# Altium integrated library Analog Devices Data Converters Digital-to-Analog Converters.IntLib: 2231 symbols (part 104 of 181)
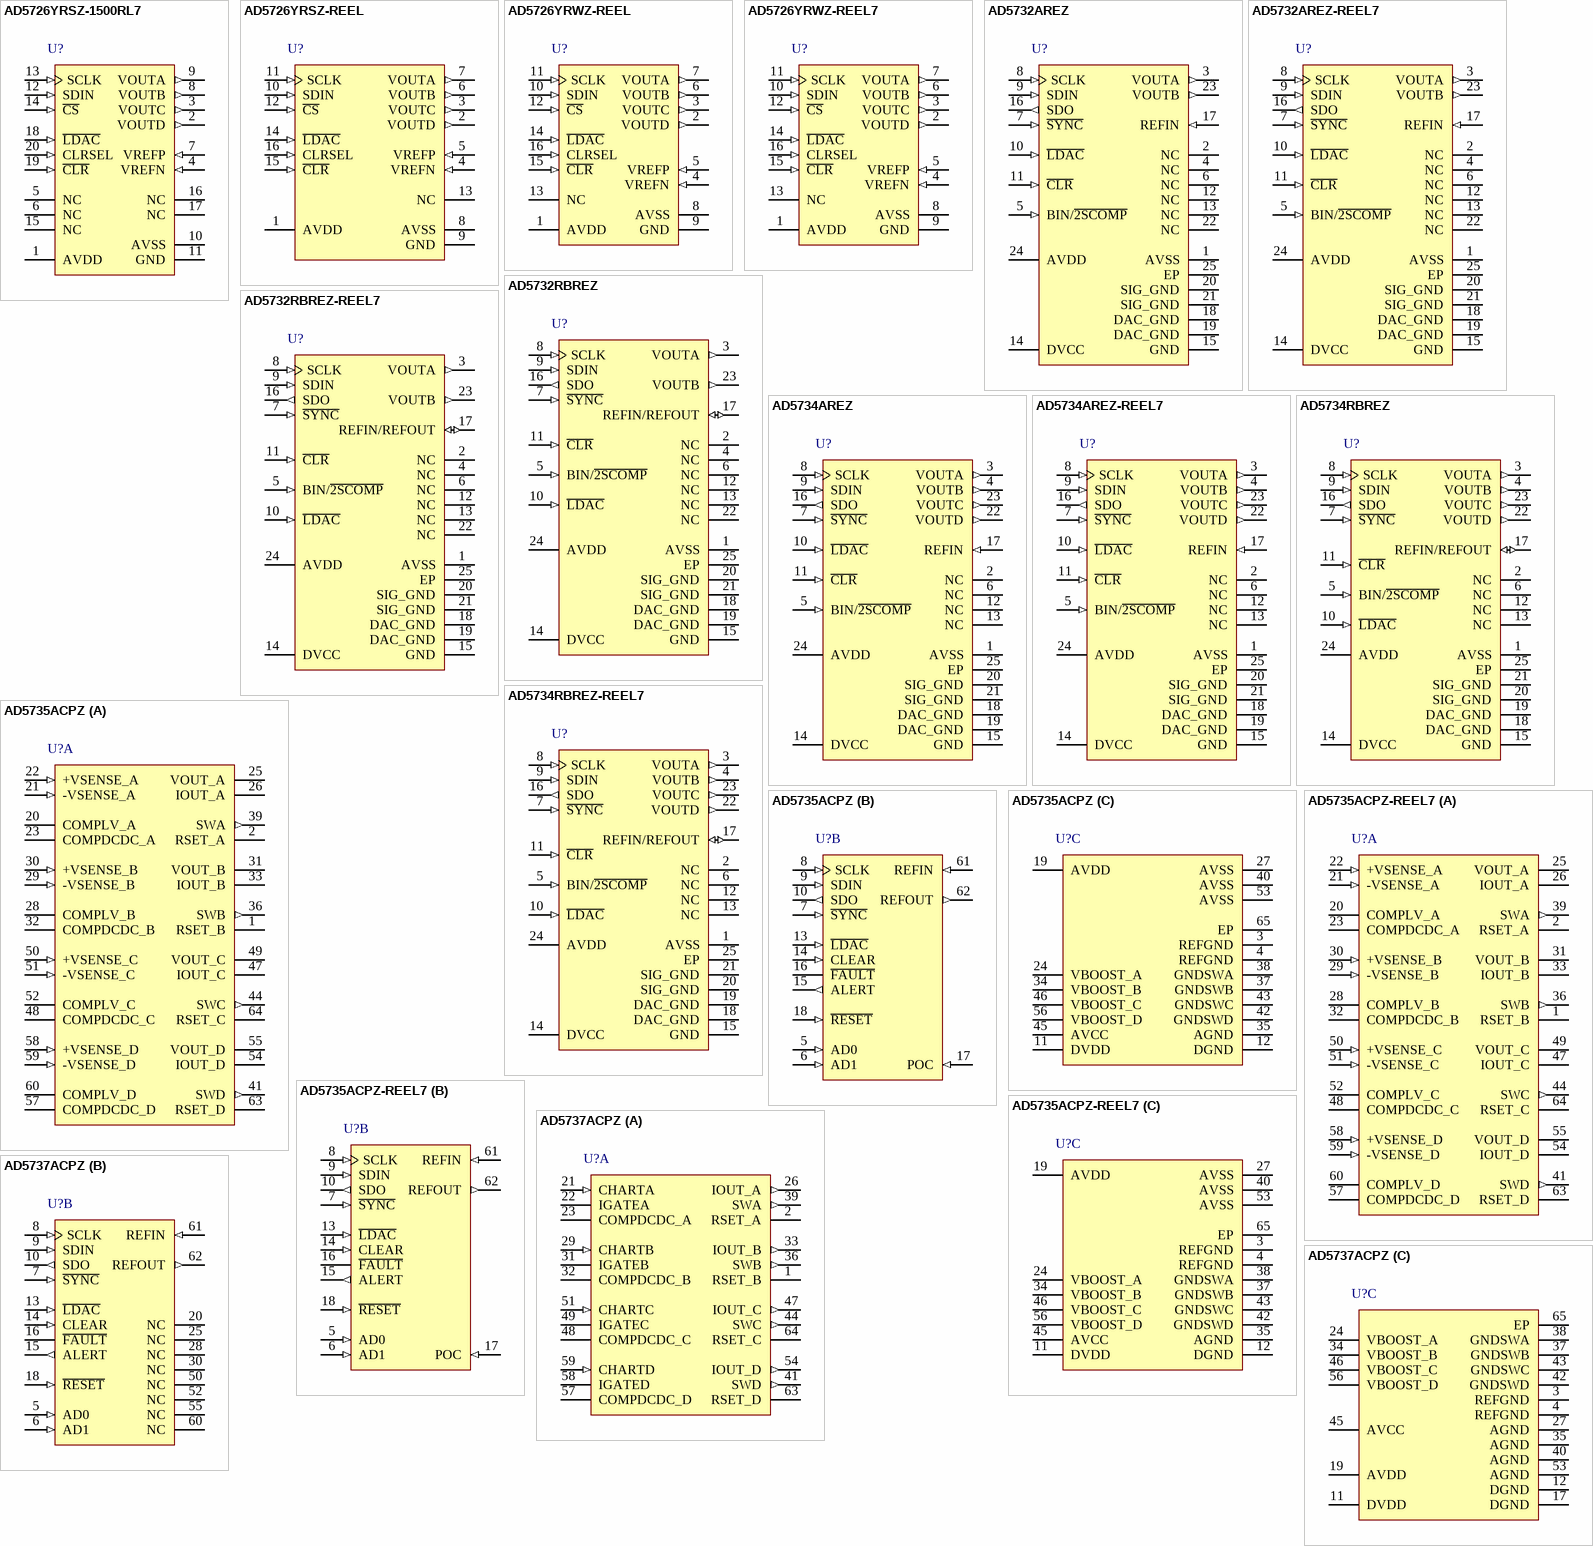
[diagram p217: symbols AD5726YRSZ-1500RL7 to AD5737ACPZ]

## AD5732RBREZ-REEL7
designator U?
Dual 14-Bit Voltage Output Digital-to-Analog Converter with Serial Interface, -40 to +85 degC, RE-24, Pb-Free, Reel; Generic Part Number: AD5732R; Manufacturer: Analog Devices; PartNumber: AD5732RBREZ-REEL7; # DAC Outputs: 2; Max V+: 16.5V; Op Pwr Diss: 190mW; Resolution (Bits): 14; Settling Time: 7.5µs; Single Supply: Yes; DatasheetVersion: Rev.D; PackageVersion: 050806-A; PackageReference: RE-24; PackageDescription: 24-Lead Thin Shrink Small Outline Package, Exposed Pad [TSSOP_EP]; Supplier 1: Digi-Key; Supplier Part Number 1: AD5732RBREZ-REEL7-ND; Supplier 2: Mouser; Supplier Part Number 2: 584-AD5732RBREZ-R7; Packing: Reel; RoHS: Y; Mounting Technology: Surface Mount; Code_JEDEC: MO-153-ADT; ComponentLink1Description: Manufacturer URL; ComponentLink1URL: http://www.analog.com/en/index.html; ComponentLink2Description: Datasheet; ComponentLink2URL: http://www.analog.com/static/imported-files/data_sheets/AD5722R_5732R_5752R.pdf; ComponentLink3Description: Package Specification; ComponentLink3URL: http://www.analog.com/static/imported-files/packages/PKG_PDF/TSSOP_EP(RE)/RE_24.pdf; ComponentLink4Description: Product URL; ComponentLink4URL: http://www.analog.com/en/digital-to-analog-converters/da-converters/ad5732r/products/product.html; ComponentLink5Description: Reference Design URL; ComponentLink5URL: http://www.analog.com/en/digital-to-analog-converters/da-converters/ad5732r/products/product.html#prod_cross_sell
footprint RE-24_N (TSOP, 24-Leads, Body 7.8x4.4mm, Pitch 0.65mm, Thermal pad 5.02x3.25 mm, IPC Medium Density)
footprint RE-24_L (TSOP, 24-Leads, Body 7.8x4.4mm, Pitch 0.65mm, Thermal pad 5.02x3.25 mm, IPC High Density)
footprint RE-24_M (TSOP, 24-Leads, Body 7.8x4.4mm, Pitch 0.65mm, Thermal pad 5.02x3.25 mm, IPC Low Density)
pins: 1 AVSS (power) "Negative Analog Supply. Voltage ranges from -4.5 V to -16.5 V. This pin can be connected to 0 V if output ranges are unipolar.", 2 NC "Do not connect to these pins.", 3 VOUTA (out) "Analog Output Voltage of DAC A. The output amplifier is capable of directly driving a 2 kohm, 4000 pF load.", 4 NC "Do not connect to these pins.", 5 BIN/~{2SCOMP} (in) "Determines the DAC coding for a bipolar output range. This pin should be hardwired to either DVCC or GND. When hardwired to DVCC, input coding is offset binary. When hardwired to GND, input coding is twos complement. (For (See Datasheet)", 6 NC "Do not connect to these pins.", 7 ~{SYNC} (in) "Active Low Input. This is the frame Synchronization signal for the serial interface. While S\Y\N\C\ is low, data is transferred on the falling edge of SCLK. Data is latched on the rising edge of S\Y\N\C\.", 8 SCLK (in) "Serial Clock Input. Data is clocked into the shift register on the falling edge of SCLK. This operates at clock speeds up to 30 MHz.", 9 SDIN (in) "Serial Data Input. Data must be valid on the falling edge of SCLK.", 10 ~{LDAC} (in) "Load DAC, Logic Input. This is used to update the DAC registers and, consequently, the analog output. When this pin is tied permanently low, the addressed DAC register is updated on the rising edge of S\Y\N\C\. If L\D\A\C\ (See Datasheet)", 11 ~{CLR} (in) "Active Low Input. Asserting this pin sets the DAC registers to zero-scale code or midscale code (user selectable).", 12 NC "Do not connect to these pins.", 13 NC "Do not connect to these pins.", 14 DVCC (power) "Digital Supply. Voltage ranges from 2.7 V to 5.5 V.", 15 GND (power) "Ground Reference.", 16 SDO (out) "Serial Data Output. Used to clock data from the serial register in daisy-chain or readback mode. Data is clocked out on the rising edge of SCLK and is valid on the falling edge of SCLK.", 17 REFIN/REFOUT (io) "External Reference Voltage Input and Internal Reference Voltage Output. Reference input range is 2 V to 3 V. REFIN = 2.5 V for specified performance. REFOUT = 2.5 V +/- 2 mV.", 18 DAC_GND (power) "Ground Reference for the Four Digital-to-Analog Converters.", 19 DAC_GND (power) "Ground Reference for the Four Digital-to-Analog Converters.", 20 SIG_GND (power) "Ground Reference for the Four Output Amplifiers.", 21 SIG_GND (power) "Ground Reference for the Four Output Amplifiers.", 22 NC "Do not connect to these pins.", 23 VOUTB (out) "Analog Output Voltage of DAC B. The output amplifier is capable of directly driving a 2 k ohm, 4000 pF load.", 24 AVDD (power) "Positive Analog Supply. Voltage ranges from 4.5 V to 16.5 V.", 25 EP "This exposed paddle should be connected to the potential of the AVSS pin, or alternatively, it can be left electrically unconnected. It is recommended that the paddle be thermally connected to a copper plane for enhanced (See Datasheet)"

## AD5734AREZ
designator U?
Quad 14-Bit Unipolar / Bipolar Voltage Output Digital-to-Analog Converter with Serial Interface, -40 to +85 degC, RE-24, Pb-Free, Tube; Generic Part Number: AD5734; Manufacturer: Analog Devices; PartNumber: AD5734AREZ; # DAC Outputs: 4; Max V+: 16.5V; Op Pwr Diss: 310mW; Resolution (Bits): 14; Settling Time: 8µs; Single Supply: Yes; DatasheetVersion: Rev.D; PackageVersion: 050806-A; PackageReference: RE-24; PackageDescription: 24-Lead Thin Shrink Small Outline Package, Exposed Pad [TSSOP_EP]; Supplier 1: Digi-Key; Supplier Part Number 1: AD5734AREZ-ND; Supplier 2: Mouser; Supplier Part Number 2: 584-AD5734AREZ; Packing: Tube; RoHS: Y; Mounting Technology: Surface Mount; Code_JEDEC: MO-153-ADT; ComponentLink1Description: Manufacturer URL; ComponentLink1URL: http://www.analog.com/en/index.html; ComponentLink2Description: Datasheet; ComponentLink2URL: http://www.analog.com/static/imported-files/data_sheets/AD5724_5734_5754.pdf; ComponentLink3Description: Package Specification; ComponentLink3URL: http://www.analog.com/static/imported-files/packages/PKG_PDF/TSSOP_EP(RE)/RE_24.pdf; ComponentLink4Description: Product URL; ComponentLink4URL: http://www.analog.com/en/digital-to-analog-converters/da-converters/ad5734/products/product.html; ComponentLink5Description: Reference Design URL; ComponentLink5URL: http://www.analog.com/en/digital-to-analog-converters/da-converters/ad5734/products/product.html#prod_cross_sell
footprint RE-24_N (TSOP, 24-Leads, Body 7.8x4.4mm, Pitch 0.65mm, Thermal pad 5.02x3.25 mm, IPC Medium Density)
footprint RE-24_L (TSOP, 24-Leads, Body 7.8x4.4mm, Pitch 0.65mm, Thermal pad 5.02x3.25 mm, IPC High Density)
footprint RE-24_M (TSOP, 24-Leads, Body 7.8x4.4mm, Pitch 0.65mm, Thermal pad 5.02x3.25 mm, IPC Low Density)
pins: 1 AVSS (power) "Negative Analog Supply. Voltage ranges from -4.5 V to -16.5 V. This pin can be connected to 0 V if output ranges are unipolar.", 2 NC "Do not connect to these pins.", 3 VOUTA (out) "Analog Output Voltage of DAC A. The output amplifier is capable of directly driving a 2 kohm, 4000 pF load.", 4 VOUTB (out) "Analog Output Voltage of DAC B. The output amplifier is capable of directly driving a 2 kohm, 4000 pF load.", 5 BIN/~{2SCOMP} (in) "Determines the DAC coding for a bipolar output range. This pin should be hardwired to either DVCC or GND. When hardwired to DVCC, input coding is offset binary. When hardwired to GND, input coding is twos complement. (For (See Datasheet)", 6 NC "Do not connect to these pins.", 7 ~{SYNC} (in) "Active Low Input. This is the frame synchronization signal for the serial interface. While S\Y\N\C\ is low, data is transferred on the falling edge of SCLK. Data is latched on the rising edge of S\Y\N\C\.", 8 SCLK (in) "Serial Clock Input. Data is clocked into the shift register on the falling edge of SCLK. This operates at clock speeds up to 30 MHz.", 9 SDIN (in) "Serial Data Input. Data must be valid on the falling edge of SCLK.", 10 ~{LDAC} (in) "Load DAC, Logic Input. This is used to update the DAC registers and consequently, the analog outputs. When this pin is tied permanently low, the addressed DAC register is updated on the rising edge of S\Y\N\C\. If L\D\A\C\ (See Datasheet)", 11 ~{CLR} (in) "Active Low Input. Asserting this pin sets the DAC registers to zero-scale code or midscale code (user-selectable).", 12 NC "Do not connect to these pins.", 13 NC "Do not connect to these pins.", 14 DVCC (power) "Digital Supply. Voltage ranges from 2.7 V to 5.5 V.", 15 GND (power) "Ground Reference.", 16 SDO (out) "Serial Data Output. Used to clock data from the serial register in daisy-chain or readback mode. Data is clocked out on the rising edge of SCLK and is valid on the falling edge of SCLK.", 17 REFIN (in) "External Reference Voltage Input. Reference input range is 2 V to 3 V. REFIN = 2.5 V for specified performance.", 18 DAC_GND (power) "Ground Reference for the Four Digital-to-Analog Converters.", 19 DAC_GND (power) "Ground Reference for the Four Digital-to-Analog Converters.", 20 SIG_GND (power) "Ground Reference for the Four Output Amplifiers.", 21 SIG_GND (power) "Ground Reference for the Four Output Amplifiers.", 22 VOUTD (out) "Analog Output Voltage of DAC D. The output amplifier is capable of directly driving a 2 kohm, 4000 pF load.", 23 VOUTC (out) "Analog Output Voltage of DAC C. The output amplifier is capable of directly driving a 2 kohm, 4000 pF load.", 24 AVDD (power) "Positive Analog Supply. Voltage ranges from 4.5 V to 16.5 V.", 25 EP "This exposed paddle should be connected to the potential of the AVSS pin, or alternatively, it can be left electrically unconnected. It is recommended that the paddle be thermally connected to a copper plane for enhanced (See Datasheet)"

## AD5734AREZ-REEL7
designator U?
Quad 14-Bit Unipolar / Bipolar Voltage Output Digital-to-Analog Converter with Serial Interface, -40 to +85 degC, RE-24, Pb-Free, Reel; Generic Part Number: AD5734; Manufacturer: Analog Devices; PartNumber: AD5734AREZ-REEL7; # DAC Outputs: 4; Max V+: 16.5V; Op Pwr Diss: 310mW; Resolution (Bits): 14; Settling Time: 8µs; Single Supply: Yes; DatasheetVersion: Rev.D; PackageVersion: 050806-A; PackageReference: RE-24; PackageDescription: 24-Lead Thin Shrink Small Outline Package, Exposed Pad [TSSOP_EP]; Supplier 1: Digi-Key; Supplier Part Number 1: AD5734AREZ-REEL7-ND; Supplier 2: Mouser; Supplier Part Number 2: 584-AD5734AREZ-R7; Packing: Reel; RoHS: Y; Mounting Technology: Surface Mount; Code_JEDEC: MO-153-ADT; ComponentLink1Description: Manufacturer URL; ComponentLink1URL: http://www.analog.com/en/index.html; ComponentLink2Description: Datasheet; ComponentLink2URL: http://www.analog.com/static/imported-files/data_sheets/AD5724_5734_5754.pdf; ComponentLink3Description: Package Specification; ComponentLink3URL: http://www.analog.com/static/imported-files/packages/PKG_PDF/TSSOP_EP(RE)/RE_24.pdf; ComponentLink4Description: Product URL; ComponentLink4URL: http://www.analog.com/en/digital-to-analog-converters/da-converters/ad5734/products/product.html; ComponentLink5Description: Reference Design URL; ComponentLink5URL: http://www.analog.com/en/digital-to-analog-converters/da-converters/ad5734/products/product.html#prod_cross_sell
footprint RE-24_N (TSOP, 24-Leads, Body 7.8x4.4mm, Pitch 0.65mm, Thermal pad 5.02x3.25 mm, IPC Medium Density)
footprint RE-24_L (TSOP, 24-Leads, Body 7.8x4.4mm, Pitch 0.65mm, Thermal pad 5.02x3.25 mm, IPC High Density)
footprint RE-24_M (TSOP, 24-Leads, Body 7.8x4.4mm, Pitch 0.65mm, Thermal pad 5.02x3.25 mm, IPC Low Density)
pins: 1 AVSS (power) "Negative Analog Supply. Voltage ranges from -4.5 V to -16.5 V. This pin can be connected to 0 V if output ranges are unipolar.", 2 NC "Do not connect to these pins.", 3 VOUTA (out) "Analog Output Voltage of DAC A. The output amplifier is capable of directly driving a 2 kohm, 4000 pF load.", 4 VOUTB (out) "Analog Output Voltage of DAC B. The output amplifier is capable of directly driving a 2 kohm, 4000 pF load.", 5 BIN/~{2SCOMP} (in) "Determines the DAC coding for a bipolar output range. This pin should be hardwired to either DVCC or GND. When hardwired to DVCC, input coding is offset binary. When hardwired to GND, input coding is twos complement. (For (See Datasheet)", 6 NC "Do not connect to these pins.", 7 ~{SYNC} (in) "Active Low Input. This is the frame synchronization signal for the serial interface. While S\Y\N\C\ is low, data is transferred on the falling edge of SCLK. Data is latched on the rising edge of S\Y\N\C\.", 8 SCLK (in) "Serial Clock Input. Data is clocked into the shift register on the falling edge of SCLK. This operates at clock speeds up to 30 MHz.", 9 SDIN (in) "Serial Data Input. Data must be valid on the falling edge of SCLK.", 10 ~{LDAC} (in) "Load DAC, Logic Input. This is used to update the DAC registers and consequently, the analog outputs. When this pin is tied permanently low, the addressed DAC register is updated on the rising edge of S\Y\N\C\. If L\D\A\C\ (See Datasheet)", 11 ~{CLR} (in) "Active Low Input. Asserting this pin sets the DAC registers to zero-scale code or midscale code (user-selectable).", 12 NC "Do not connect to these pins.", 13 NC "Do not connect to these pins.", 14 DVCC (power) "Digital Supply. Voltage ranges from 2.7 V to 5.5 V.", 15 GND (power) "Ground Reference.", 16 SDO (out) "Serial Data Output. Used to clock data from the serial register in daisy-chain or readback mode. Data is clocked out on the rising edge of SCLK and is valid on the falling edge of SCLK.", 17 REFIN (in) "External Reference Voltage Input. Reference input range is 2 V to 3 V. REFIN = 2.5 V for specified performance.", 18 DAC_GND (power) "Ground Reference for the Four Digital-to-Analog Converters.", 19 DAC_GND (power) "Ground Reference for the Four Digital-to-Analog Converters.", 20 SIG_GND (power) "Ground Reference for the Four Output Amplifiers.", 21 SIG_GND (power) "Ground Reference for the Four Output Amplifiers.", 22 VOUTD (out) "Analog Output Voltage of DAC D. The output amplifier is capable of directly driving a 2 kohm, 4000 pF load.", 23 VOUTC (out) "Analog Output Voltage of DAC C. The output amplifier is capable of directly driving a 2 kohm, 4000 pF load.", 24 AVDD (power) "Positive Analog Supply. Voltage ranges from 4.5 V to 16.5 V.", 25 EP "This exposed paddle should be connected to the potential of the AVSS pin, or alternatively, it can be left electrically unconnected. It is recommended that the paddle be thermally connected to a copper plane for enhanced (See Datasheet)"

## AD5734RBREZ
designator U?
Quad 14-Bit Unipolar / Bipolar Voltage Output Digital-to-Analog Converter with Serial Interface, -40 to +85 degC, RE-24, Pb-Free, Tube; Generic Part Number: AD5734R; Manufacturer: Analog Devices; PartNumber: AD5734RBREZ; # DAC Outputs: 4; Max V+: 16.5V; Op Pwr Diss: 310mW; Resolution (Bits): 14; Settling Time: 10µs; Single Supply: Yes; DatasheetVersion: Rev.E; PackageVersion: 050806-A; PackageReference: RE-24; PackageDescription: 24-Lead Thin Shrink Small Outline Package, Exposed Pad [TSSOP_EP]; Supplier 1: Digi-Key; Supplier Part Number 1: AD5734RBREZ-ND; Supplier 2: Farnell; Supplier Part Number 2: 1786048; Supplier 3: Newark; Supplier Part Number 3: 62R9196; Supplier 4: Mouser; Supplier Part Number 4: 584-AD5734RBREZ; Packing: Tube; RoHS: Y; Mounting Technology: Surface Mount; Code_JEDEC: MO-153-ADT; ComponentLink1Description: Manufacturer URL; ComponentLink1URL: http://www.analog.com/en/index.html; ComponentLink2Description: Datasheet; ComponentLink2URL: http://www.analog.com/static/imported-files/data_sheets/AD5724R_5734R_5754R.pdf; ComponentLink3Description: Package Specification; ComponentLink3URL: http://www.analog.com/static/imported-files/packages/PKG_PDF/TSSOP_EP(RE)/RE_24.pdf; ComponentLink4Description: Product URL; ComponentLink4URL: http://www.analog.com/en/digital-to-analog-converters/da-converters/ad5734r/products/product.html
footprint RE-24_N (TSOP, 24-Leads, Body 7.8x4.4mm, Pitch 0.65mm, Thermal pad 5.02x3.25 mm, IPC Medium Density)
footprint RE-24_L (TSOP, 24-Leads, Body 7.8x4.4mm, Pitch 0.65mm, Thermal pad 5.02x3.25 mm, IPC High Density)
footprint RE-24_M (TSOP, 24-Leads, Body 7.8x4.4mm, Pitch 0.65mm, Thermal pad 5.02x3.25 mm, IPC Low Density)
pins: 1 AVSS (power) "Negative Analog Supply Pin. Voltage range is from -4.5 V to -16.5 V. This pin can be connected to 0 V if output ranges are unipolar.", 2 NC "No Connect. Do not connect to these pins.", 3 VOUTA (out) "Analog Output Voltage of DAC A. The output amplifier is capable of directly driving a 2 kohm, 4000 pF load.", 4 VOUTB (out) "Analog Output Voltage of DAC B. The output amplifier is capable of directly driving a 2 kohm, 4000 pF load.", 5 BIN/~{2SCOMP} (in) "This pin determines the DAC coding for a bipolar output range. This pin should be hardwired to either DVCC or GND. When hardwired to DVCC, input coding is offset binary. When hardwired to GND, input coding is twos complement.(See Datasheet)", 6 NC "No Connect. Do not connect to these pins.", 7 ~{SYNC} (in) "Active Low Input. This is the frame Synchronization signal for the serial interface. While S\Y\N\C\ is low, data is transferred on the falling edge of SCLK. Data is latched on the rising edge of S\Y\N\C\.", 8 SCLK (in) "Serial Clock Input. Data is clocked into the shift register on the falling edge of SCLK. This operates at clock speeds up to 30 MHz.", 9 SDIN (in) "Serial Data Input. Data must be valid on the falling edge of SCLK.", 10 ~{LDAC} (in) "Load DAC, Logic Input. This is used to update the DAC registers and, consequently, the analog output. When tied permanently low, the addressed DAC register is updated on the rising edge of S\Y\N\C\. If L\D\A\C\ is held high (See Datasheet)", 11 ~{CLR} (in) "Active Low Input. Asserting this pin sets the DAC registers to zero-scale code or midscale code (user selectable).", 12 NC "No Connect. Do not connect to these pins.", 13 NC "No Connect. Do not connect to these pins.", 14 DVCC (power) "Digital Supply Pin. Voltage range is from 2.7 V to 5.5 V.", 15 GND (power) "Ground Reference Pin.", 16 SDO (out) "Serial Data Output. Used to clock data from the serial register in daisy-chain or readback mode. Data is clocked out on the rising edge of SCLK and is valid on the falling edge of SCLK.", 17 REFIN/REFOUT (io) "External Reference Voltage Input and Internal Reference Voltage Output. Reference input range is 2 V to 3 V. REFIN = 2.5 V for specified performance. REFOUT = 2.5 V +/- 2 mV 25 degC.", 18 DAC_GND (power) "Ground reference pins for the four digital-to-analog converters.", 19 DAC_GND (power) "Ground reference pins for the four digital-to-analog converters.", 20 SIG_GND (power) "Ground reference pins for the four output amplifiers.", 21 SIG_GND (power) "Ground reference pins for the four output amplifiers.", 22 VOUTD (out) "Analog Output Voltage of DAC D. The output amplifier is capable of directly driving a 2 kohm, 4000 pF load.", 23 VOUTC (out) "Analog Output Voltage of DAC C. The output amplifier is capable of directly driving a 2 kohm, 4000 pF load.", 24 AVDD (power) "Positive Analog Supply Pin. Voltage range is from 4.5 V to 16.5 V.", 25 EP (power) "The exposed paddle should be connected to the potential of the AVSS pin or, alternatively, it can be left electrically unconnected. It is recommended that the paddle be thermally connected to a copper plane for enhanced (See Datasheet)"

## AD5734RBREZ-REEL7
designator U?
Quad 14-Bit Unipolar / Bipolar Voltage Output Digital-to-Analog Converter with Serial Interface, -40 to +85 degC, RE-24, Pb-Free, Reel; Generic Part Number: AD5734R; Manufacturer: Analog Devices; PartNumber: AD5734RBREZ-REEL7; # DAC Outputs: 4; Max V+: 16.5V; Op Pwr Diss: 310mW; Resolution (Bits): 14; Settling Time: 10µs; Single Supply: Yes; DatasheetVersion: Rev.E; PackageVersion: 050806-A; PackageReference: RE-24; PackageDescription: 24-Lead Thin Shrink Small Outline Package, Exposed Pad [TSSOP_EP]; Supplier 1: Digi-Key; Supplier Part Number 1: AD5734RBREZ-REEL7-ND; Supplier 2: Mouser; Supplier Part Number 2: 584-AD5734RBREZ-R7; Packing: Reel; RoHS: Y; Mounting Technology: Surface Mount; Code_JEDEC: MO-153-ADT; ComponentLink1Description: Manufacturer URL; ComponentLink1URL: http://www.analog.com/en/index.html; ComponentLink2Description: Datasheet; ComponentLink2URL: http://www.analog.com/static/imported-files/data_sheets/AD5724R_5734R_5754R.pdf; ComponentLink3Description: Package Specification; ComponentLink3URL: http://www.analog.com/static/imported-files/packages/PKG_PDF/TSSOP_EP(RE)/RE_24.pdf; ComponentLink4Description: Product URL; ComponentLink4URL: http://www.analog.com/en/digital-to-analog-converters/da-converters/ad5734r/products/product.html
footprint RE-24_N (TSOP, 24-Leads, Body 7.8x4.4mm, Pitch 0.65mm, Thermal pad 5.02x3.25 mm, IPC Medium Density)
footprint RE-24_L (TSOP, 24-Leads, Body 7.8x4.4mm, Pitch 0.65mm, Thermal pad 5.02x3.25 mm, IPC High Density)
footprint RE-24_M (TSOP, 24-Leads, Body 7.8x4.4mm, Pitch 0.65mm, Thermal pad 5.02x3.25 mm, IPC Low Density)
pins: 1 AVSS (power) "Negative Analog Supply Pin. Voltage range is from -4.5 V to -16.5 V. This pin can be connected to 0 V if output ranges are unipolar.", 2 NC "No Connect. Do not connect to these pins.", 3 VOUTA (out) "Analog Output Voltage of DAC A. The output amplifier is capable of directly driving a 2 kohm, 4000 pF load.", 4 VOUTB (out) "Analog Output Voltage of DAC B. The output amplifier is capable of directly driving a 2 kohm, 4000 pF load.", 5 BIN/~{2SCOMP} (in) "This pin determines the DAC coding for a bipolar output range. This pin should be hardwired to either DVCC or GND. When hardwired to DVCC, input coding is offset binary. When hardwired to GND, input coding is twos complement.(See Datasheet)", 6 NC "No Connect. Do not connect to these pins.", 7 ~{SYNC} (in) "Active Low Input. This is the frame Synchronization signal for the serial interface. While S\Y\N\C\ is low, data is transferred on the falling edge of SCLK. Data is latched on the rising edge of S\Y\N\C\.", 8 SCLK (in) "Serial Clock Input. Data is clocked into the shift register on the falling edge of SCLK. This operates at clock speeds up to 30 MHz.", 9 SDIN (in) "Serial Data Input. Data must be valid on the falling edge of SCLK.", 10 ~{LDAC} (in) "Load DAC, Logic Input. This is used to update the DAC registers and, consequently, the analog output. When tied permanently low, the addressed DAC register is updated on the rising edge of S\Y\N\C\. If L\D\A\C\ is held high (See Datasheet)", 11 ~{CLR} (in) "Active Low Input. Asserting this pin sets the DAC registers to zero-scale code or midscale code (user selectable).", 12 NC "No Connect. Do not connect to these pins.", 13 NC "No Connect. Do not connect to these pins.", 14 DVCC (power) "Digital Supply Pin. Voltage range is from 2.7 V to 5.5 V.", 15 GND (power) "Ground Reference Pin.", 16 SDO (out) "Serial Data Output. Used to clock data from the serial register in daisy-chain or readback mode. Data is clocked out on the rising edge of SCLK and is valid on the falling edge of SCLK.", 17 REFIN/REFOUT (io) "External Reference Voltage Input and Internal Reference Voltage Output. Reference input range is 2 V to 3 V. REFIN = 2.5 V for specified performance. REFOUT = 2.5 V +/- 2 mV 25 degC.", 18 DAC_GND (power) "Ground reference pins for the four digital-to-analog converters.", 19 DAC_GND (power) "Ground reference pins for the four digital-to-analog converters.", 20 SIG_GND (power) "Ground reference pins for the four output amplifiers.", 21 SIG_GND (power) "Ground reference pins for the four output amplifiers.", 22 VOUTD (out) "Analog Output Voltage of DAC D. The output amplifier is capable of directly driving a 2 kohm, 4000 pF load.", 23 VOUTC (out) "Analog Output Voltage of DAC C. The output amplifier is capable of directly driving a 2 kohm, 4000 pF load.", 24 AVDD (power) "Positive Analog Supply Pin. Voltage range is from 4.5 V to 16.5 V.", 25 EP (power) "The exposed paddle should be connected to the potential of the AVSS pin or, alternatively, it can be left electrically unconnected. It is recommended that the paddle be thermally connected to a copper plane for enhanced (See Datasheet)"

## AD5735ACPZ
designator U?
Quad 12-Bit Voltage Output Digital-to-Analog Converter with Serial Interface and Dynamic Power Control, 4 to 20 mA, -40 to +105 degC, CP-64-3, Pb-Free, Tray; Generic Part Number: AD5735; Manufacturer: Analog Devices; PartNumber: AD5735ACPZ; # DAC Outputs: 4; Max V+: 33V; Op Pwr Diss: 173mW; Resolution (Bits): 12; Settling Time: 11µs; Single Supply: No; DatasheetVersion: Rev.B; PackageVersion: 051007-C; PackageReference: CP-64-3; PackageDescription: 64-Lead Lead Frame Chip Scale Package [LFCSP_VQ] 9 x 9 mm Body, Very Thin Quad; Supplier 1: Digi-Key; Supplier Part Number 1: AD5735ACPZ-ND; Supplier 2: Farnell; Supplier Part Number 2: 2008771; Supplier 3: Newark; Supplier Part Number 3: 58T8897; Supplier 4: Mouser; Supplier Part Number 4: 584-AD5735ACPZ; Packing: Tray; RoHS: Y; Mounting Technology: Surface Mount; Code_JEDEC: MO-220-VMMD-4; ComponentLink1Description: Manufacturer URL; ComponentLink1URL: http://www.analog.com/en/index.html; ComponentLink2Description: Datasheet; ComponentLink2URL: http://www.analog.com/static/imported-files/data_sheets/AD5735.PDF; ComponentLink3Description: Package Specification; ComponentLink3URL: http://www.analog.com/static/imported-files/packages/PKG_PDF/LFCSP(CP)/CP_64_3.pdf; ComponentLink4Description: Product URL; ComponentLink4URL: http://www.analog.com/en/digital-to-analog-converters/da-converters/ad5735/products/product.html
footprint CP-64-3_N (QFN, 64-Leads, Body 9x9mm, Pitch 0.5mm, Thermal Pad 7.1x7.1mm, IPC Medium Density)
footprint CP-64-3_L (QFN, 64-Leads, Body 9x9mm, Pitch 0.5mm, Thermal Pad 7.1x7.1mm, IPC High Density)
footprint CP-64-3_M (QFN, 64-Leads, Body 9x9mm, Pitch 0.5mm, Thermal Pad 7.1x7.1mm, IPC Low Density)
part A pins: 1 RSET_B "An external, precision, low drift, 15 k ohm current setting resistor can be connected to this pin to improve the IOUT_B temperature drift performance. For more information, see the External Current Setting Resistor section.", 2 RSET_A "An external, precision, low drift, 15 k ohm current setting resistor can be connected to this pin to improve the IOUT_A temperature drift performance. For more information, see the External Current Setting Resistor section.", 20 COMPLV_A "Optional Compensation Capacitor Connection for VOUT_A Output Buffer. Connecting a 220 pF capacitor between this pin and the VOUT_A  pin allows the voltage output to drive up to 2 uF. Note that the addition of this capacitor (See Datasheet)", 21 -VSENSE_A (in) "Sense Connection for the Negative Voltage Output Load Connection for VOUT_A. This pin must stay within +/- 3.0 V of AGND for specified operation.", 22 +VSENSE_A (in) "Sense Connection for the Positive Voltage Output Load Connection for VOUT_A . The difference in voltage between th is pin  and the VOUT_A  pin  is  add ed  directly to the headroom requirement.", 23 COMPDCDC_A "DC-to -DC  Compensation Capacitor. Connect a 10 nF capacitor from this pin to ground. Used to regulate the feedback loop of the Channel A dc -to - dc  converter. Alternatively, if using an external compensation (See Datasheet)", 25 VOUT_A (hiz) "Buffered Analog Output Voltage for DAC Channel A.", 26 IOUT_A (hiz) "Current Output Pin for DAC Channel A.", 28 COMPLV_B "Optional Compensation Capacitor Connection for VOUT_B Output Buffer. Connecting a 220 pF capacitor between this pin and the  VOUT_B  pin allows the voltage output to drive up to 2 uF. Note that the addition of this capacitor (See Datasheet)", 29 -VSENSE_B (in) "Sense Connection for the Negative Voltage Output Load Connection for VOUT_B . This pin must stay within +/- 3.0  V of AGND for specified operation.", 30 +VSENSE_B (in) "Sense Connection for the Positive Voltage Output Load Connection for VOUT_B . The difference in voltage between this pin and the VOUT_B  pin is added  directly to the headroom requirement.", 31 VOUT_B (hiz) "Buffered Analog Output Voltage for DAC Channel B.", 32 COMPDCDC_B "DC-to -DC Compensation Capacitor. Connect a 10 nF capacitor from this pin to ground. Used to regulate the feedback loop of the Channel B dc-to - dc converter. Alternatively, if using  an external compensation resistor, place (See Datasheet)", 33 IOUT_B (hiz) "Current Output Pin for DAC Channel B.", 36 SWB (out) "Switching Output for Channel B DC-to-DC Circuitry. To use the dc -to - dc converter, connect this pin as shown in  Figure 77 .", 39 SWA (out) "Switching Output for Channel A DC -to -DC Circuitry. To use the dc -to - dc converter, connect this pin as shown   in  Figure 77 .", 41 SWD (out) "Switching Output for Channel D DC -to -DC Circuitry. To use the dc -to - dc converter, connect this pin as shown in  Figure 77 .", 44 SWC (out) "Switching Output for Channel C DC -to -DC Circuitry. To use the dc-to - dc converter, connect this pin as shown in  Figure 77 .", 47 IOUT_C (hiz) "Current Output Pin for DAC Channel C.", 48 COMPDCDC_C "DC-to -DC Compensation Capacitor. Connect a 10 nF capacitor from this pin to ground. Used to regulate the feedback loop of the Channel C dc-to - dc converter. Alternatively, if using an external compensation resistor, place (See Datasheet)", 49 VOUT_C (hiz) "Buffered Analog Output Voltage for DAC Channel C.", 50 +VSENSE_C (in) "Sense Connection for the Positive Voltage Output Load Connection for V OUT_C . The difference in voltage between this pin and the VOUT_C pin is added  directly  to the headroom requirement.", 51 -VSENSE_C (in) "Sense Connection for the Negative Voltage Output Load Connection for  V OUT_C . This pin must stay within +/-3.0  V of AGND for specified operation.", 52 COMPLV_C "Optional Compensation Capacitor C onnection for  V OUT_C   Output Buffer. Connecting a 220 pF capacitor between this pin and the  VOUT_C  pin allows the voltage output to drive up to 2 uF. Note that the addition of this (See Datasheet)", 54 IOUT_D (hiz) "Current Output Pin for DAC Channel D.", 55 VOUT_D (hiz) "Buffered Analog Output Voltage for DAC Channel D.", 57 COMPDCDC_D "DC-to -DC  Compensation Capacitor. Connect a 10 nF capacitor from this pin to ground. Used to regulate the feedback loop of the  Channel D dc-to - dc converter. Alternatively, if using an external compensation resistor, (See Datasheet)", 58 +VSENSE_D (in) "Sense Connection for the Positive Voltage Output Load Connection for VOUT_D . The difference in voltage between this pin and the VOUT_D  pin is added directly to the headroom requirement.", 59 -VSENSE_D (in) "Sense Connection for the Negative Voltage Output Load Connection for VOUT_D . This pin must stay within +/-3.0  V of AGND for specified operation.", 60 COMPLV_D "Optional Compensation Capacitor Connection for  VOUT_D   Output Buffer. Connecting a 220 pF capacitor between this pin and the VOUT_D  pin allows the voltage output to drive up to 2 uF. Note that the addition of this (See Datasheet)", 63 RSET_D "An external, precision, low drif , 15 k ohm  current setting resistor can be connected to this pin to improve the IOUT_D  temperature drift performance. For more information, see the  External Current Setting Resistor (See Datasheet)", 64 RSET_C "An external, precision, low drift, 15 k ohm  current setting resistor can be connected to this pin to improve the IOUT_C  temperature drift performance. For more information, see the External Current Setting Resistor section."
part B pins: 5 AD0 (in) "Address Decode for the Device Under Test (DUT) on the Board.", 6 AD1 (in) "Address Decode for the DUT on the Board.", 7 ~{SYNC} (in) "Frame Synchronization Signal for the Serial Interface. Active low input. When S\Y\N\C\ is low, data is clocked into the input shift register on the falling edge of SCLK.", 8 SCLK (in) "Serial Clock Input. Data is clocked into the input shift register on the falling edge of SCLK. The serial interface operates at clock speeds of up to 30 MHz.", 9 SDIN (in) "Serial Data Input. Data must be valid on the falling edge of SCLK.", 10 SDO (out) "Serial Data Output. Used to clock data from the serial register in readback mode (see Figure 4 and Figure 5).", 13 ~{LDAC} (in) "Load DAC. This active low input is used to update the DAC register and consequently  the DAC outputs. When  L\D\A\C\  is  tied permanently low, the addressed DAC data register is updated on the rising edge of S\Y\N\C\.  If  (See Datasheet)", 14 CLEAR (in) "Active High, Edge Sensitive Input. When  this pin is asserted, the output current and voltage are set to the programmed clear code bit setting. Only channels enabled to be cleared are cleared . F or more information, see the (See Datasheet)", 15 ALERT (out) "Active High Output. This pin is asserted when there is no SPI activity on the interface pins for a preset  time. For more information , see the Alert Output section .", 16 ~{FAULT} (oc) "Active Low, Open -Drain Output. This pin is asserted low when any of the following conditions is detected: open circuit in current mode; short circuit in voltage mode ; PEC error; or an overtemperature condition(see the  (See Datasheet)", 17 POC (in) "Power- On Condition.This pin determines the power- on condition and is read during power- on and after a device reset. If POC=0, the device is powered up with the voltage and current channels in tristate mode. If POC=1, the (See Datasheet)", 18 ~{RESET} (in) "Hardware Reset, Active Low Input.", 61 REFIN (in) "External Reference Voltage Input.", 62 REFOUT (out) "Internal Reference Voltage Output. It is recommended  that  a 0.1 uF capacitor be placed between REFOUT and REFGND."
part C pins: 3 REFGND (power) "Ground Reference Point for Internal Reference.", 4 REFGND (power) "Ground Reference Point for Internal Reference.", 11 DVDD (power) "Digital Supply Pin. The voltage range is from 2.7 V to 5.5 V.", 12 DGND (power) "Digital Ground.", 19 AVDD (power) "Positive Analog Supply Pin. The voltage range is from 9 V to 33 V.", 24 VBOOST_A (power) "Supply for Channel A Current Output Stage (see Figure 71 ). This  pin  is also the supply for the VOUT _A  stage, which i s regulated to 15 V by the dc -to - dc converter. To use the dc-to - dc converter, connect this pin as (See Datasheet)", 27 AVSS (power) "Negative Analog Supply Pin. The voltage range is from -10.8 V to -26.4 V.", 34 VBOOST_B (power) "Supply for Channel B Current Output Stage (see  Figure 71 ). This  pin is also the supply for the  VOUT_B stage, which is regulated to 15 V by the dc -to - dc converter. To use the dc-to - dc converter, connect this pin as (See Datasheet)", 35 AGND (power) "Ground Reference Point for Analog Circuitry. This  pin  must be connected to 0 V.", 37 GNDSWB (power) "Ground Connection for DC-to-DC Switching Circuit. This pin should always be connected to ground.", 38 GNDSWA (power) "Ground Connection for DC-to-DC Switching Circuit. This pin should always be connected to ground.", 40 AVSS (power) "Negative Analog Supply Pin. The voltage range is from -10.8 V to -26.4 V.", 42 GNDSWD (power) "Ground Connection for DC -to -DC Switching Circuit. This pin should always be connected to ground.", 43 GNDSWC (power) "Ground Connection for DC-to -DC Switching Circuit. This pin should always be connected to ground.", 45 AVCC (power) "Supply for DC -to -DC Circuitry. The voltage range is from 4.5 V to 5.5 V.", 46 VBOOST_C (power) "Supply for Channel C Current Output Stage (see Figure 71 ).  This pin is also the supply for the VOUT_C   stage, which is regulated to 15 V by the dc -to - dc converter. To use the dc-to - dc converter, connect this pin as (See Datasheet)", 53 AVSS (power) "Negative Analog Supply Pin.  The voltage range is from -10.8 V to -26.4 V.", 56 VBOOST_D (power) "Supply for Channel D Current Output Stage (see Figure 71 ). This  pin  is also the supply for the VOUT_D   stage,which is regulated to 15 V by the dc -to - dc converter. To use the dc-to - dc converter, connect this pin as (See Datasheet)", 65 EP (power) "Exposed Pad. The  exposed  paddle should be connected to the potential of the AVSS   pin, or, alternatively, it can be left electrically unconnected. It is recommended that the paddle  be thermally connected to a copper (See Datasheet)"

## AD5735ACPZ-REEL7
designator U?
Quad 12-Bit Voltage Output Digital-to-Analog Converter with Serial Interface and Dynamic Power Control, 4 to 20 mA, -40 to +105 degC, CP-64-3, Pb-Free, Reel; Generic Part Number: AD5735; Manufacturer: Analog Devices; PartNumber: AD5735ACPZ-REEL7; # DAC Outputs: 4; Max V+: 33V; Op Pwr Diss: 173mW; Resolution (Bits): 12; Settling Time: 11µs; Single Supply: No; DatasheetVersion: Rev.B; PackageVersion: 051007-C; PackageReference: CP-64-3; PackageDescription: 64-Lead Lead Frame Chip Scale Package [LFCSP_VQ] 9 x 9 mm Body, Very Thin Quad; Supplier 1: Digi-Key; Supplier Part Number 1: AD5735ACPZ-REEL7-ND; Supplier 2: Mouser; Supplier Part Number 2: 584-AD5735ACPZ-R7; Packing: Reel; RoHS: Y; Mounting Technology: Surface Mount; Code_JEDEC: MO-220-VMMD-4; ComponentLink1Description: Manufacturer URL; ComponentLink1URL: http://www.analog.com/en/index.html; ComponentLink2Description: Datasheet; ComponentLink2URL: http://www.analog.com/static/imported-files/data_sheets/AD5735.PDF; ComponentLink3Description: Package Specification; ComponentLink3URL: http://www.analog.com/static/imported-files/packages/PKG_PDF/LFCSP(CP)/CP_64_3.pdf; ComponentLink4Description: Product URL; ComponentLink4URL: http://www.analog.com/en/digital-to-analog-converters/da-converters/ad5735/products/product.html
footprint CP-64-3_N (QFN, 64-Leads, Body 9x9mm, Pitch 0.5mm, Thermal Pad 7.1x7.1mm, IPC Medium Density)
footprint CP-64-3_L (QFN, 64-Leads, Body 9x9mm, Pitch 0.5mm, Thermal Pad 7.1x7.1mm, IPC High Density)
footprint CP-64-3_M (QFN, 64-Leads, Body 9x9mm, Pitch 0.5mm, Thermal Pad 7.1x7.1mm, IPC Low Density)
part A pins: 1 RSET_B "An external, precision, low drift, 15 k ohm current setting resistor can be connected to this pin to improve the IOUT_B temperature drift performance. For more information, see the External Current Setting Resistor section.", 2 RSET_A "An external, precision, low drift, 15 k ohm current setting resistor can be connected to this pin to improve the IOUT_A temperature drift performance. For more information, see the External Current Setting Resistor section.", 20 COMPLV_A "Optional Compensation Capacitor Connection for VOUT_A Output Buffer. Connecting a 220 pF capacitor between this pin and the VOUT_A  pin allows the voltage output to drive up to 2 uF. Note that the addition of this capacitor (See Datasheet)", 21 -VSENSE_A (in) "Sense Connection for the Negative Voltage Output Load Connection for VOUT_A. This pin must stay within +/- 3.0 V of AGND for specified operation.", 22 +VSENSE_A (in) "Sense Connection for the Positive Voltage Output Load Connection for VOUT_A . The difference in voltage between th is pin  and the VOUT_A  pin  is  add ed  directly to the headroom requirement.", 23 COMPDCDC_A "DC-to -DC  Compensation Capacitor. Connect a 10 nF capacitor from this pin to ground. Used to regulate the feedback loop of the Channel A dc -to - dc  converter. Alternatively, if using an external compensation (See Datasheet)", 25 VOUT_A (hiz) "Buffered Analog Output Voltage for DAC Channel A.", 26 IOUT_A (hiz) "Current Output Pin for DAC Channel A.", 28 COMPLV_B "Optional Compensation Capacitor Connection for VOUT_B Output Buffer. Connecting a 220 pF capacitor between this pin and the  VOUT_B  pin allows the voltage output to drive up to 2 uF. Note that the addition of this capacitor (See Datasheet)", 29 -VSENSE_B (in) "Sense Connection for the Negative Voltage Output Load Connection for VOUT_B . This pin must stay within +/- 3.0  V of AGND for specified operation.", 30 +VSENSE_B (in) "Sense Connection for the Positive Voltage Output Load Connection for VOUT_B . The difference in voltage between this pin and the VOUT_B  pin is added  directly to the headroom requirement.", 31 VOUT_B (hiz) "Buffered Analog Output Voltage for DAC Channel B.", 32 COMPDCDC_B "DC-to -DC Compensation Capacitor. Connect a 10 nF capacitor from this pin to ground. Used to regulate the feedback loop of the Channel B dc-to - dc converter. Alternatively, if using  an external compensation resistor, place (See Datasheet)", 33 IOUT_B (hiz) "Current Output Pin for DAC Channel B.", 36 SWB (out) "Switching Output for Channel B DC-to-DC Circuitry. To use the dc -to - dc converter, connect this pin as shown in  Figure 77 .", 39 SWA (out) "Switching Output for Channel A DC -to -DC Circuitry. To use the dc -to - dc converter, connect this pin as shown   in  Figure 77 .", 41 SWD (out) "Switching Output for Channel D DC -to -DC Circuitry. To use the dc -to - dc converter, connect this pin as shown in  Figure 77 .", 44 SWC (out) "Switching Output for Channel C DC -to -DC Circuitry. To use the dc-to - dc converter, connect this pin as shown in  Figure 77 .", 47 IOUT_C (hiz) "Current Output Pin for DAC Channel C.", 48 COMPDCDC_C "DC-to -DC Compensation Capacitor. Connect a 10 nF capacitor from this pin to ground. Used to regulate the feedback loop of the Channel C dc-to - dc converter. Alternatively, if using an external compensation resistor, place (See Datasheet)", 49 VOUT_C (hiz) "Buffered Analog Output Voltage for DAC Channel C.", 50 +VSENSE_C (in) "Sense Connection for the Positive Voltage Output Load Connection for V OUT_C . The difference in voltage between this pin and the VOUT_C pin is added  directly  to the headroom requirement.", 51 -VSENSE_C (in) "Sense Connection for the Negative Voltage Output Load Connection for  V OUT_C . This pin must stay within +/-3.0  V of AGND for specified operation.", 52 COMPLV_C "Optional Compensation Capacitor C onnection for  V OUT_C   Output Buffer. Connecting a 220 pF capacitor between this pin and the  VOUT_C  pin allows the voltage output to drive up to 2 uF. Note that the addition of this (See Datasheet)", 54 IOUT_D (hiz) "Current Output Pin for DAC Channel D.", 55 VOUT_D (hiz) "Buffered Analog Output Voltage for DAC Channel D.", 57 COMPDCDC_D "DC-to -DC  Compensation Capacitor. Connect a 10 nF capacitor from this pin to ground. Used to regulate the feedback loop of the  Channel D dc-to - dc converter. Alternatively, if using an external compensation resistor, (See Datasheet)", 58 +VSENSE_D (in) "Sense Connection for the Positive Voltage Output Load Connection for VOUT_D . The difference in voltage between this pin and the VOUT_D  pin is added directly to the headroom requirement.", 59 -VSENSE_D (in) "Sense Connection for the Negative Voltage Output Load Connection for VOUT_D . This pin must stay within +/-3.0  V of AGND for specified operation.", 60 COMPLV_D "Optional Compensation Capacitor Connection for  VOUT_D   Output Buffer. Connecting a 220 pF capacitor between this pin and the VOUT_D  pin allows the voltage output to drive up to 2 uF. Note that the addition of this (See Datasheet)", 63 RSET_D "An external, precision, low drif , 15 k ohm  current setting resistor can be connected to this pin to improve the IOUT_D  temperature drift performance. For more information, see the  External Current Setting Resistor (See Datasheet)", 64 RSET_C "An external, precision, low drift, 15 k ohm  current setting resistor can be connected to this pin to improve the IOUT_C  temperature drift performance. For more information, see the External Current Setting Resistor section."
part B pins: 5 AD0 (in) "Address Decode for the Device Under Test (DUT) on the Board.", 6 AD1 (in) "Address Decode for the DUT on the Board.", 7 ~{SYNC} (in) "Frame Synchronization Signal for the Serial Interface. Active low input. When S\Y\N\C\ is low, data is clocked into the input shift register on the falling edge of SCLK.", 8 SCLK (in) "Serial Clock Input. Data is clocked into the input shift register on the falling edge of SCLK. The serial interface operates at clock speeds of up to 30 MHz.", 9 SDIN (in) "Serial Data Input. Data must be valid on the falling edge of SCLK.", 10 SDO (out) "Serial Data Output. Used to clock data from the serial register in readback mode (see Figure 4 and Figure 5).", 13 ~{LDAC} (in) "Load DAC. This active low input is used to update the DAC register and consequently  the DAC outputs. When  L\D\A\C\  is  tied permanently low, the addressed DAC data register is updated on the rising edge of S\Y\N\C\.  If  (See Datasheet)", 14 CLEAR (in) "Active High, Edge Sensitive Input. When  this pin is asserted, the output current and voltage are set to the programmed clear code bit setting. Only channels enabled to be cleared are cleared . F or more information, see the (See Datasheet)", 15 ALERT (out) "Active High Output. This pin is asserted when there is no SPI activity on the interface pins for a preset  time. For more information , see the Alert Output section .", 16 ~{FAULT} (oc) "Active Low, Open -Drain Output. This pin is asserted low when any of the following conditions is detected: open circuit in current mode; short circuit in voltage mode ; PEC error; or an overtemperature condition(see the  (See Datasheet)", 17 POC (in) "Power- On Condition.This pin determines the power- on condition and is read during power- on and after a device reset. If POC=0, the device is powered up with the voltage and current channels in tristate mode. If POC=1, the (See Datasheet)", 18 ~{RESET} (in) "Hardware Reset, Active Low Input.", 61 REFIN (in) "External Reference Voltage Input.", 62 REFOUT (out) "Internal Reference Voltage Output. It is recommended  that  a 0.1 uF capacitor be placed between REFOUT and REFGND."
part C pins: 3 REFGND (power) "Ground Reference Point for Internal Reference.", 4 REFGND (power) "Ground Reference Point for Internal Reference.", 11 DVDD (power) "Digital Supply Pin. The voltage range is from 2.7 V to 5.5 V.", 12 DGND (power) "Digital Ground.", 19 AVDD (power) "Positive Analog Supply Pin. The voltage range is from 9 V to 33 V.", 24 VBOOST_A (power) "Supply for Channel A Current Output Stage (see Figure 71 ). This  pin  is also the supply for the VOUT _A  stage, which i s regulated to 15 V by the dc -to - dc converter. To use the dc-to - dc converter, connect this pin as (See Datasheet)", 27 AVSS (power) "Negative Analog Supply Pin. The voltage range is from -10.8 V to -26.4 V.", 34 VBOOST_B (power) "Supply for Channel B Current Output Stage (see  Figure 71 ). This  pin is also the supply for the  VOUT_B stage, which is regulated to 15 V by the dc -to - dc converter. To use the dc-to - dc converter, connect this pin as (See Datasheet)", 35 AGND (power) "Ground Reference Point for Analog Circuitry. This  pin  must be connected to 0 V.", 37 GNDSWB (power) "Ground Connection for DC-to-DC Switching Circuit. This pin should always be connected to ground.", 38 GNDSWA (power) "Ground Connection for DC-to-DC Switching Circuit. This pin should always be connected to ground.", 40 AVSS (power) "Negative Analog Supply Pin. The voltage range is from -10.8 V to -26.4 V.", 42 GNDSWD (power) "Ground Connection for DC -to -DC Switching Circuit. This pin should always be connected to ground.", 43 GNDSWC (power) "Ground Connection for DC-to -DC Switching Circuit. This pin should always be connected to ground.", 45 AVCC (power) "Supply for DC -to -DC Circuitry. The voltage range is from 4.5 V to 5.5 V.", 46 VBOOST_C (power) "Supply for Channel C Current Output Stage (see Figure 71 ).  This pin is also the supply for the VOUT_C   stage, which is regulated to 15 V by the dc -to - dc converter. To use the dc-to - dc converter, connect this pin as (See Datasheet)", 53 AVSS (power) "Negative Analog Supply Pin.  The voltage range is from -10.8 V to -26.4 V.", 56 VBOOST_D (power) "Supply for Channel D Current Output Stage (see Figure 71 ). This  pin  is also the supply for the VOUT_D   stage,which is regulated to 15 V by the dc -to - dc converter. To use the dc-to - dc converter, connect this pin as (See Datasheet)", 65 EP (power) "Exposed Pad. The  exposed  paddle should be connected to the potential of the AVSS   pin, or, alternatively, it can be left electrically unconnected. It is recommended that the paddle  be thermally connected to a copper (See Datasheet)"